# Altium integrated library Res.IntLib: 1 symbol
Pins are listed as number, name and electrical type; pins without a type are passive.

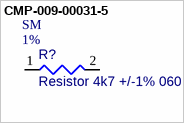
[diagram p0: symbol CMP-009-00031-5]

## CMP-009-00031-5
designator R?, comment Resistor 4k7 +/-1% 0603 100 mW  value 4.7k  Tolerance: 1%  Mounting Technology: SM  Case/Package: 0603  RoHS Compliant: True  Power: 100mW  Pins: 2  Min Operating Temperature: -55°C  Max Operating Temperature: 155°C
Chip Resistor, 4.7 KOhm, +/- 1%, 0.1 W, -55 to 155 degC, 0603 (1608 Metric)
footprint RESC0805(2012)_L (Chip Resistor, Body 2.0x1.3mm, IPC High Density)
footprint RESC1608X55X25ML10T15 (Chip Resistor, 2-Leads, Body 1.70x0.90mm, IPC Low Density)
footprint RESC1608X55X25LL10T15 (Chip Resistor, 2-Leads, Body 1.70x0.90mm, IPC High Density)
footprint RESC1608X55X25NL10T15 (Chip Resistor, 2-Leads, Body 1.70x0.90mm, IPC Medium Density)
pins: 1, 2
1 alternate drawing of the same symbol